# Altium schematic symbol library USB3085-XX-X_revD.SchLib: 1 symbol
Pins are listed as number, name and electrical type; pins without a type are passive.

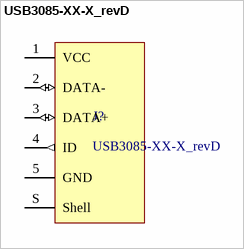
[diagram p0: symbol USB3085-XX-X_revD]

## USB3085-XX-X_revD
designator J?
Micro USB Receptacle, Type AB, SMT, Horizontal, Bottom Mount, without Peg
footprint USB3085-XX-X_revD (Micro USB Receptacle, Type AB, SMT, Horizontal, Bottom Mount, without Peg)
pins: 1 VCC (power), 2 DATA- (io), 3 DATA+ (io), 4 ID (out), 5 GND (power), S Shell (power)